# EAGLE library part ARDUINO-PRO-MINI- (library CaliBeta-Modulos)
Arduino Pro Mini (y dispositivos compatibles) con dos conectores solamente Mas detalles disponibles aqui: https://www.arduino.cc/en/Main/ArduinoBoardProMini ATmega328P Datasheet <https://www.sparkfun.com/datasheets/Components/SMD/ATMega328.pdf>
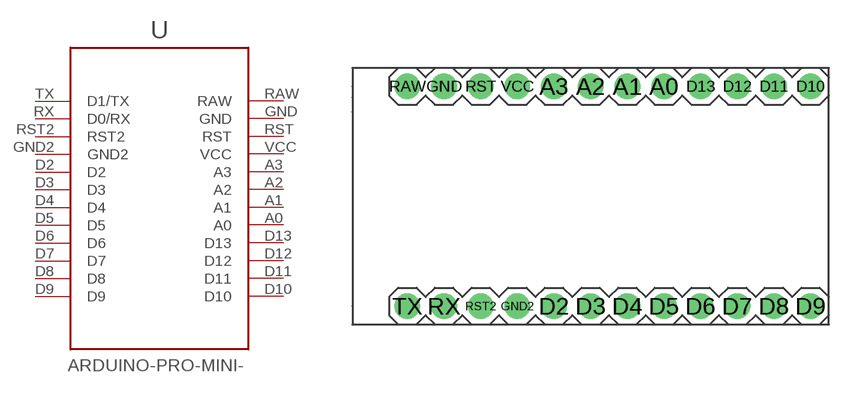
[diagram p2: symbol with the pads of ARDUINO-PRO-MINI-SMP; footprint ARDUINO-PRO-MINI-SMP]

Designator prefix -

## ARDUINO-PRO-MINI-3V3-8MHZ, ARDUINO-PRO-MINI-5V-16MHZ  [ARDUINO-PRO-MINI-SMP]
A0  A0
A1  A1
A2  A2
A3  A3
D2  D2
D3  D3
D4  D4
D5  D5
D6  D6
D7  D7
D8  D8
D9  D9
D10  D10
D11  D11
D12  D12
D13  D13
GND  GND  pwr
GND2  GND2  pwr
RAW  RAW  pwr
RST  RST
RST2  RST2
RX  D0/RX
TX  D1/TX
VCC  VCC  pwr

## Footprint ARDUINO-PRO-MINI-SMP (pad centres in mm)
drill 1 pad 1.778: A0 5.08,7.62; A1 2.54,7.62; A2 0,7.62; A3 -2.54,7.62; D2 -2.54,-7.62; D3 0,-7.62; D4 2.54,-7.62; D5 5.08,-7.62; D6 7.62,-7.62; D7 10.16,-7.62; D8 12.7,-7.62; D9 15.24,-7.62; D10 15.24,7.62; D11 12.7,7.62; D12 10.16,7.62; D13 7.62,7.62; GND -10.16,7.62; GND2 -5.08,-7.62; RAW -12.7,7.62; RST -7.62,7.62; RST2 -7.62,-7.62; RX -10.16,-7.62; TX -12.7,-7.62; VCC -5.08,7.62